# EAGLE library part NHD-C12832A1Z (library rezzonics)
COG LCD Module Newhaven Display NHD-C12832A1Z NHD-C12832A1Z-NSW-BBW-3V3 <ikey.com/product-detail/en/NHD-C12832A1Z-NSW-BBW-3V3/NHD-C12832A1Z-NSW-BBW-3V3-ND/2059235>
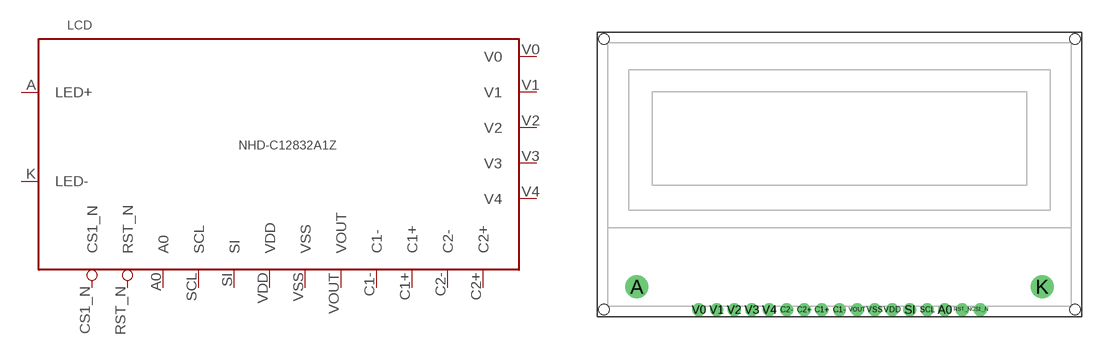
[diagram p16: symbol with the pads of NHD-C12832A1Z; footprint NHD-C12832A1Z]

Designator prefix LCD

## NHD-C12832A1Z  [NHD-C12832A1Z]
A  LED+  pwr
A0  A0  in
C1+  C1+  pwr
C1-  C1-  pwr
C2+  C2+  pwr
C2-  C2-  pwr
CS1_N  CS1_N  in
K  LED-  pwr
RST_N  RST_N  in
SCL  SCL  in
SI  SI  in
V0  V0  pwr
V1  V1  pwr
V2  V2  pwr
V3  V3  pwr
V4  V4  pwr
VDD  VDD  pwr
VOUT  VOUT  pwr
VSS  VSS  pwr

## Footprint NHD-C12832A1Z (pad centres in mm)
LCD Newhaven Display NHD-C12832A1Z
drill 1.3: A -17.3,1.95; K 17.3,1.95
drill 0.6: A0 9,0; C1+ -1.5,0; C1- 0,0; C2+ -3,0; C2- -4.5,0; CS1_N 12,0; RST_N 10.5,0; SCL 7.5,0; SI 6,0; V0 -12,0; V1 -10.5,0; V2 -9,0; V3 -7.5,0; V4 -6,0; VDD 4.5,0; VOUT 1.5,0; VSS 3,0
hole 0.9 at -20.1,0
hole 0.9 at 20.1,0
hole 0.9 at 20.1,23.1
hole 0.9 at -20.1,23.1